# EAGLE library part HEADER-11 (library mullac)
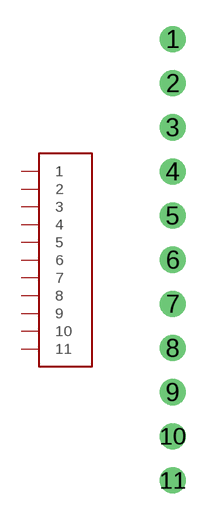
[diagram p18: symbol with the pads of HEADER_11; footprint HEADER_11]

Designator prefix -

## HEADER-11VERTICAL  [HEADER_11]
1  1
2  2
3  3
4  4
5  5
6  6
7  7
8  8
9  9
10  10
11  11

## Footprint HEADER_11 (pad centres in mm)
drill 0.8 pad 1.5: 1 0,12.7; 2 0,10.16; 3 0,7.62; 4 0,5.08; 5 0,2.54; 6 0,0; 7 0,-2.54; 8 0,-5.08; 9 0,-7.62; 10 0,-10.16; 11 0,-12.7